# Altium footprint library Dimer.PcbLib: 14 footprints
Each footprint in its own frame and in the unit in brackets; x right, y up, seen from the top. Pads: shape width x height; smd on the part's side, far side on the other; paste and mask are expansions set on the pad; w line width, h text height; cw(c..) or ccw(c..) is an arc to the next point about the centre after c.
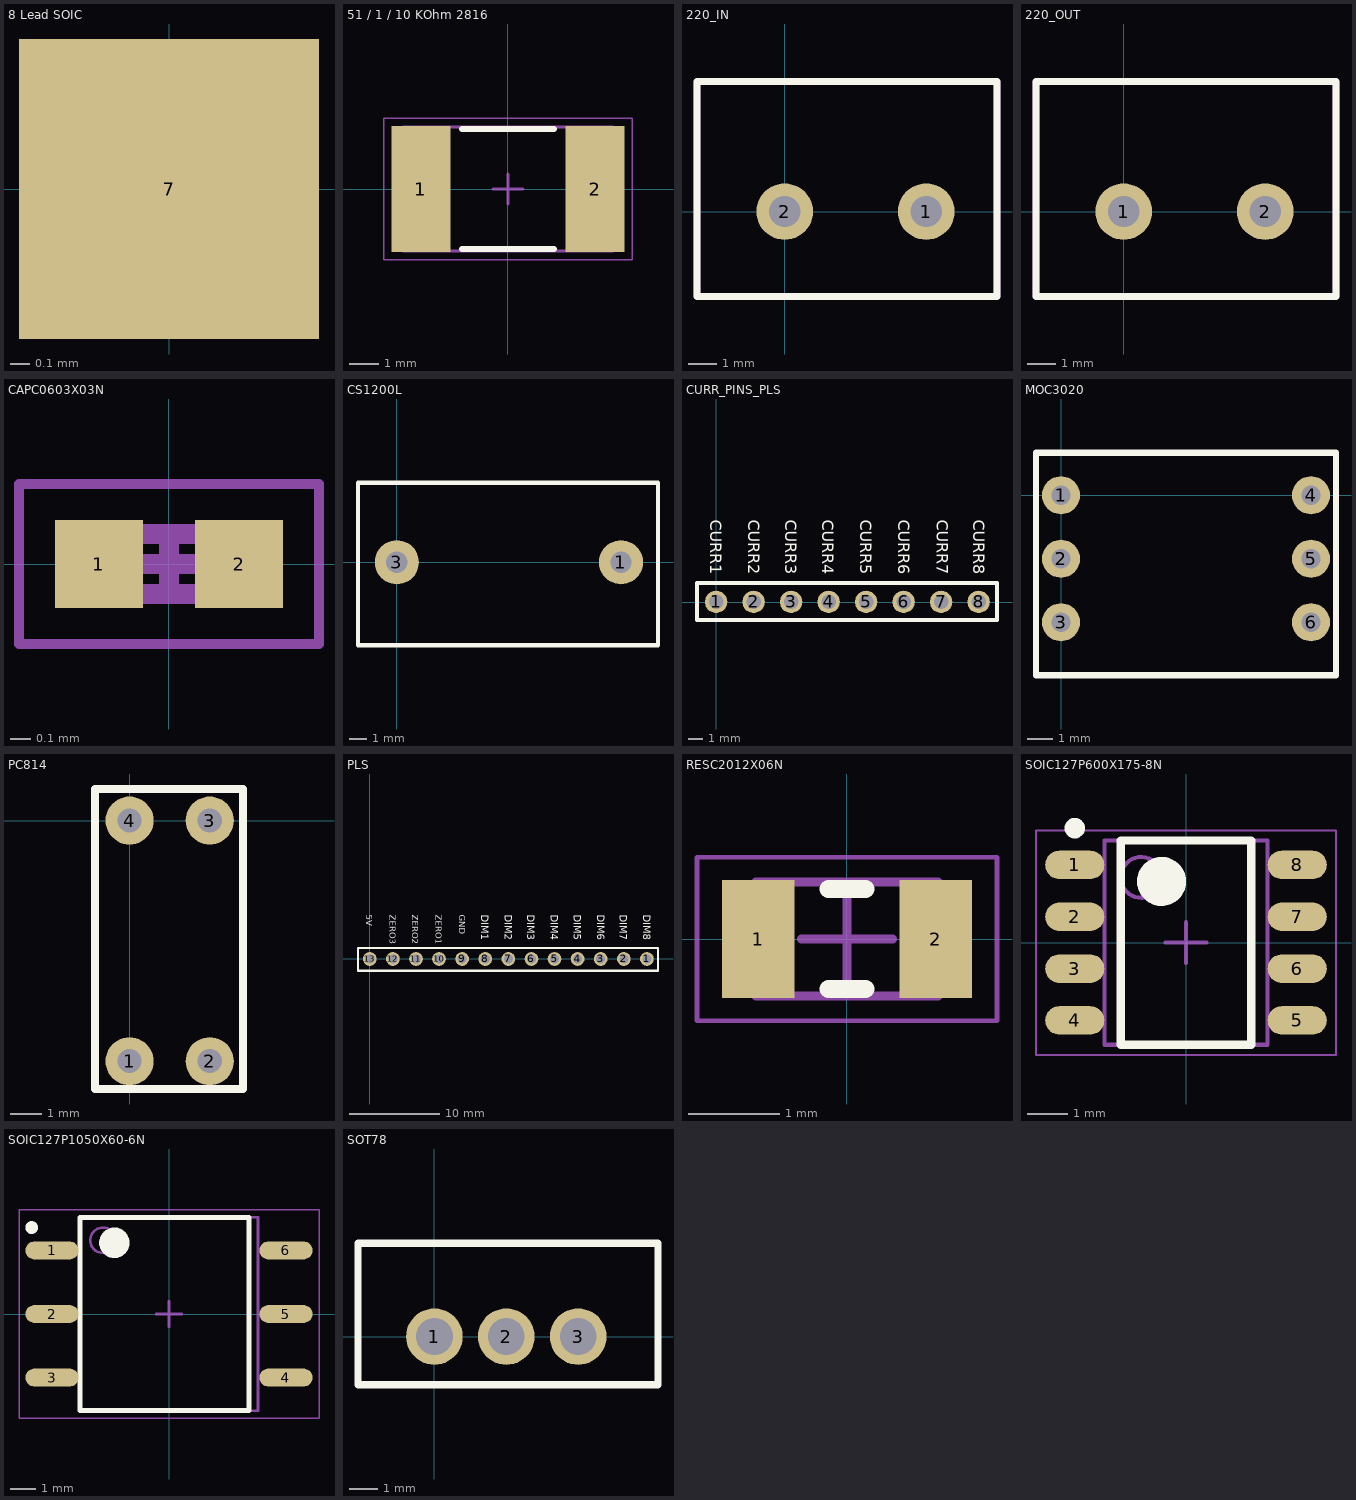
[diagram p0: the footprints below, top view; thin cyan lines are the x and y axes]

## 8 Lead SOIC [mil]
pads (1):
  rect 60x60 smd: 7(0,0)

## 51 / 1 / 10 KOhm 2816 [mm] "Chip Resistor, 2-Leads, Body 7.10x4.20mm, IPC Medium Density"
height 0.64
pads (2):
  rect 2x4.25 smd: 1(-2.95,0) 2(2.95,0)
Top Overlay:
  lines w0.2: -1.55,-2.025 1.55,-2.025 ; -1.55,2.025 1.55,2.025
Mechanical 13:
  lines w0.1: -3.55,-2.1 -3.55,2.1 3.55,2.1 3.55,-2.1 -3.55,-2.1
Mechanical 15:
  lines w0.05: -4.2,-2.4 -4.2,2.4 4.2,2.4 4.2,-2.4 -4.2,-2.4
  lines w0.1: -0.5,0 0.5,0 ; 0,-0.5 0,0.5
3D body "User Library-WSL2816 (0_004 to 0_1).STEP": height 0.64, standoff 0, extent -3.575,-2.1 3.525,2.1

## 220_IN [mm] "KF301-500-02"
pads (2):
  round 2 hole 1.1: 1(5,0) 2(0,0)
Top Overlay:
  lines w0.254: -3.1,-3 7.5,-3 7.5,4.6 -3.1,4.6 -3.1,-3
Mechanical 1:
  lines w0.254: -3.1,-3 7.5,-3 7.5,4.6 -3.1,4.6 -3.1,-3
3D body "User Library-Terminal-Screw-3A-2way.STEP": height 10, standoff -3, extent -3.1,-3 7.5,4.6

## 220_OUT [mm] "KF301-500-02"
pads (2):
  round 2 hole 1.1: 1(0,0) 2(5,0)
Top Overlay:
  lines w0.254: -3.1,-3 -3.1,4.6 7.5,4.6 7.5,-3 -3.1,-3
Mechanical 1:
  lines w0.254: -3.1,-3 -3.1,4.6 7.5,4.6 7.5,-3 -3.1,-3
3D body "User Library-Terminal-Screw-3A-2way.STEP": height 10, standoff -3, extent -3.1,-3 7.5,4.6

## CAPC0603X03N [mm] "Chip Capacitor, 2-Leads, Body 0.60x0.30mm, IPC Medium Density"
height 0.3
pads (2):
  rect 0.44x0.44 smd: 1(-0.35,0) 2(0.35,0)
Mechanical 13:
  lines w0.1: -0.3,-0.15 0.3,-0.15 0.3,0.15 -0.3,0.15 -0.3,-0.15
Mechanical 15:
  lines w0.05: -0.75,-0.4 0.75,-0.4 0.75,0.4 -0.75,0.4 -0.75,-0.4
  lines w0.1: -0.15,0 0.15,0 ; 0,-0.15 0,0.15
3D body: height 0.3, standoff 0, extent 0.2,-0.15 0.3,0.15
3D body: height 0.3, standoff 0, extent -0.3,-0.15 -0.2,0.15
3D body: height 0.3, standoff 0, extent -0.2,-0.15 0.2,0.15

## CS1200L [mm]
pads (2):
  round 2.5 hole 1.2: 1(12.7,0) 3(0,0)
Top Overlay:
  lines w0.254: -2.2,-4.7 14.8,-4.7 14.8,4.5 -2.2,4.5 -2.2,-4.7
3D body "CS1200L.stp": height 20.52, standoff -5.14, extent -2.175,-4.6 14.825,4.5

## CURR_PINS_PLS [mm]
pads (8):
  round 1.524 hole 1: 1(0,0.025) 2(2.55,0.025) 3(5.1,0.025) 4(7.65,0.025) 5(10.2,0.025) 6(12.75,0.025) 7(15.3,0.025) 8(17.85,0.025)
Top Overlay:
  lines w0.254: -1.3,-1.2 19.1,-1.2 19.1,1.3 -1.3,1.3 -1.3,-1.2
  text "CURR1" at -0.4,5.6 h0.8
  text "CURR2" at 2.2,5.6 h0.8
  text "CURR3" at 4.7,5.6 h0.8
  text "CURR4" at 7.2,5.6 h0.8
  text "CURR5" at 9.8,5.6 h0.8
  text "CURR6" at 12.4,5.6 h0.8
  text "CURR7" at 15,5.6 h0.8
  text "CURR8" at 17.5,5.6 h0.8
3D body "User Library-PLS-1R_D1-1.STEP": height 4.42, standoff -5.94, extent 1.25,-1.175 3.79,4.325
3D body "User Library-PLS-1R_D1-1.STEP": height 4.42, standoff -5.94, extent 3.8,-1.175 6.34,4.325
3D body "User Library-PLS-1R_D1-1.STEP": height 4.42, standoff -5.94, extent -1.3,-1.175 1.24,4.325
3D body "User Library-PLS-1R_D1-1.STEP": height 4.42, standoff -5.94, extent 11.455,-1.175 13.995,4.325
3D body "User Library-PLS-1R_D1-1.STEP": height 4.42, standoff -5.94, extent 14.025,-1.175 16.565,4.325
3D body "User Library-PLS-1R_D1-1.STEP": height 4.42, standoff -5.94, extent 8.9,-1.175 11.44,4.325
3D body "User Library-PLS-1R_D1-1.STEP": height 4.42, standoff -5.94, extent 6.35,-1.175 8.89,4.325
3D body "User Library-PLS-1R_D1-1.STEP": height 4.42, standoff -5.94, extent 16.6,-1.175 19.14,4.325

## MOC3020 [mil]
pads (6):
  round 60 hole 30: 1(0,0) 2(0,-100) 3(0,-200) 4(393.7,0) 5(393.7,-100) 6(393.7,-200)
Top Overlay:
  lines w10: -39.37,-283.46 433.07,-283.46 433.07,66.93 -39.37,66.93 -39.37,-283.46
3D body "User Library-Optoacoplador__MOC3020.STEP": height 167.72, standoff -134.71, extent -14.9,-281.3 408.61,68.7

## PC814 [mil]
pads (4):
  round 60 hole 30: 1(0,-300) 2(100,-300) 3(100,0) 4(0,0)
Top Overlay:
  lines w10: -43.31,-334.65 -43.31,39.37 141.73,39.37 141.73,-334.65 -43.31,-334.65
3D body "User Library-PC814.STEP": height 183.46, standoff -51.18, extent -39.37,-304.72 141.73,5.51

## PLS [mil]
pads (13):
  round 60 hole 39.37: 1(1204.72,0) 2(1104.33,0) 3(1003.94,0) 4(903.54,0) 5(803.15,0) 6(702.76,0) 7(602.36,0) 8(501.97,0) 9(401.57,0) 10(301.18,0) 11(200.79,0) 12(100.39,0) 13(0,0)
Top Overlay:
  lines w10: -51.18,-51.18 1252.95,-51.18 1252.95,47.24 -51.18,47.24 -51.18,-51.18
  text "DIM8" at 1188.98,192.91 h31.5
  text "DIM7" at 1086.61,192.91 h31.5
  text "DIM6" at 988.19,192.91 h31.5
  text "5V" at -15.75,192.91 h27.56
  text "ZERO3" at 86.61,192.91 h27.56
  text "ZERO2" at 185.04,192.91 h27.56
  text "ZERO1" at 287.4,192.91 h27.56
  text "GND" at 389.76,192.91 h27.56
  text "DIM1" at 484.25,192.91 h31.5
  text "DIM2" at 586.61,192.91 h31.5
  text "DIM3" at 685.04,192.91 h31.5
  text "DIM4" at 787.4,192.91 h31.5
  text "DIM5" at 885.83,192.91 h31.5
3D body "User Library-PLS-1R_D1-1.STEP": height 174.02, standoff -233.86, extent -51.18,-47.24 48.82,169.29
3D body "User Library-PLS-1R_D1-1.STEP": height 174.02, standoff -233.86, extent 49.41,-47.25 149.41,169.29
3D body "User Library-PLS-1R_D1-1.STEP": height 174.02, standoff -233.86, extent 250,-47.24 350,169.29
3D body "User Library-PLS-1R_D1-1.STEP": height 174.02, standoff -233.86, extent 149.61,-47.24 249.61,169.29
3D body "User Library-PLS-1R_D1-1.STEP": height 174.02, standoff -233.86, extent 551.18,-47.24 651.18,169.29
3D body "User Library-PLS-1R_D1-1.STEP": height 174.02, standoff -233.86, extent 651.57,-47.24 751.57,169.29
3D body "User Library-PLS-1R_D1-1.STEP": height 174.02, standoff -233.86, extent 450.79,-47.24 550.79,169.29
3D body "User Library-PLS-1R_D1-1.STEP": height 174.02, standoff -233.86, extent 350.39,-47.24 450.39,169.29
3D body "User Library-PLS-1R_D1-1.STEP": height 174.02, standoff -233.86, extent 952.95,-47.24 1052.95,169.29
3D body "User Library-PLS-1R_D1-1.STEP": height 174.02, standoff -233.86, extent 1054.13,-47.24 1154.13,169.29
3D body "User Library-PLS-1R_D1-1.STEP": height 174.02, standoff -233.86, extent 852.36,-47.24 952.36,169.29
3D body "User Library-PLS-1R_D1-1.STEP": height 174.02, standoff -233.86, extent 751.97,-47.24 851.97,169.29
3D body "User Library-PLS-1R_D1-1.STEP": height 174.02, standoff -233.86, extent 1155.51,-47.24 1255.51,169.29

## RESC2012X06N [mm] "Chip Resistor, 2-Leads, Body 2.00x1.25mm, IPC Medium Density"
height 0.6
pads (2):
  rect 0.8x1.3 smd: 1(-0.975,0) 2(0.975,0)
Top Overlay:
  lines w0.2: -0.2,-0.55 0.2,-0.55 ; -0.2,0.55 0.2,0.55
Mechanical 13:
  lines w0.1: -1,-0.625 1,-0.625 1,0.625 -1,0.625 -1,-0.625
Mechanical 15:
  lines w0.05: -1.65,-0.9 1.65,-0.9 1.65,0.9 -1.65,0.9 -1.65,-0.9
  lines w0.1: -0.5,0 0.5,0 ; 0,-0.5 0,0.5
3D body "CircuitWorks-RESISTOR 0805.STEP": height 0.43, standoff -0.03, extent -1,-0.63 1,0.63

## SOIC127P600X175-8N [mm] "SOIC, 8-Leads, Body 5.00x4.00mm, Pitch 1.27mm, IPC Medium Density"
height 1.75
pads (8):
  oval 1.45x0.7 smd: 1(-2.725,1.905) 2(-2.725,0.635) 3(-2.725,-0.635) 4(-2.725,-1.905) 5(2.725,-1.905) 6(2.725,-0.635) 7(2.725,0.635) 8(2.725,1.905)
Top Overlay:
  circle w0.25: c-2.725,2.805 r0.125
  circle w0.6: c-0.6,1.5 r0.3
  lines w0.2: -1.6,-2.5 -1.6,2.5 1.6,2.5 1.6,-2.5 -1.6,-2.5
Mechanical 13:
  circle w0.1: c-1.1,1.6 r0.5
  lines w0.1: -2,-2.5 -2,2.5 2,2.5 2,-2.5 -2,-2.5
Mechanical 15:
  lines w0.05: -3.675,-2.75 -3.675,2.75 3.675,2.75 3.675,-2.75 -3.675,-2.75
  lines w0.1: -0.5,0 0.5,0 ; 0,-0.5 0,0.5
3D body "User Library-SOIC-8, 3_9x4_9mm.STEP": height 2.05, standoff 0, extent -3,-2.45 3,2.45

## SOIC127P1050X60-6N [mm] "SOIC, 6-Leads, Body 7.62x7.00mm, Pitch 1.27mm, IPC Medium Density"
height 0.6
pads (6):
  oval 2.1x0.7 smd: 1(-4.6,2.5) 2(-4.6,0) 3(-4.6,-2.5) 4(4.6,-2.5) 5(4.6,0) 6(4.6,2.5)
Top Overlay:
  circle w0.6: c-2.15,2.8 r0.3
  circle w0.25: c-5.4,3.4 r0.125
  lines w0.2: -3.5,-3.8 3.15,-3.8 3.15,3.8 -3.5,3.8 -3.5,-3.8
Mechanical 13:
  circle w0.1: c-2.6,2.9 r0.5
  lines w0.1: -3.5,-3.8 3.5,-3.8 3.5,3.8 -3.5,3.8 -3.5,-3.8
Mechanical 15:
  lines w0.05: -5.9,-4.1 5.9,-4.1 5.9,4.1 -5.9,4.1 -5.9,-4.1
  lines w0.1: -0.5,0 0.5,0 ; 0,-0.5 0,0.5
3D body "MOC3021SM.stp": height 4.5, standoff 0, extent -5.08,-3.56 5.08,3.56

## SOT78 [mm]
pads (3):
  round 2 hole 1.3: 1(0,0) 2(2.54,0) 3(5.08,0)
Top Overlay:
  lines w0.254: -2.7,-1.7 7.9,-1.7 7.9,3.3 -2.7,3.3 -2.7,-1.7
3D body "User Library-heatsink TO126.STEP": height 25, standoff -3.8, extent -4.891,-1.201 9.891,9.6
3D body "80602.stp": height 22.76, standoff -8.23, extent -2.735,-1.63 7.935,3.2